# Altium footprint library RobotPcb.PcbLib: 30 footprints (part 1 of 2)
Each footprint in its own frame and in the unit in brackets; x right, y up, seen from the top. Pads: shape width x height; smd on the part's side, far side on the other; paste and mask are expansions set on the pad; w line width, h text height; cw(c..) or ccw(c..) is an arc to the next point about the centre after c.
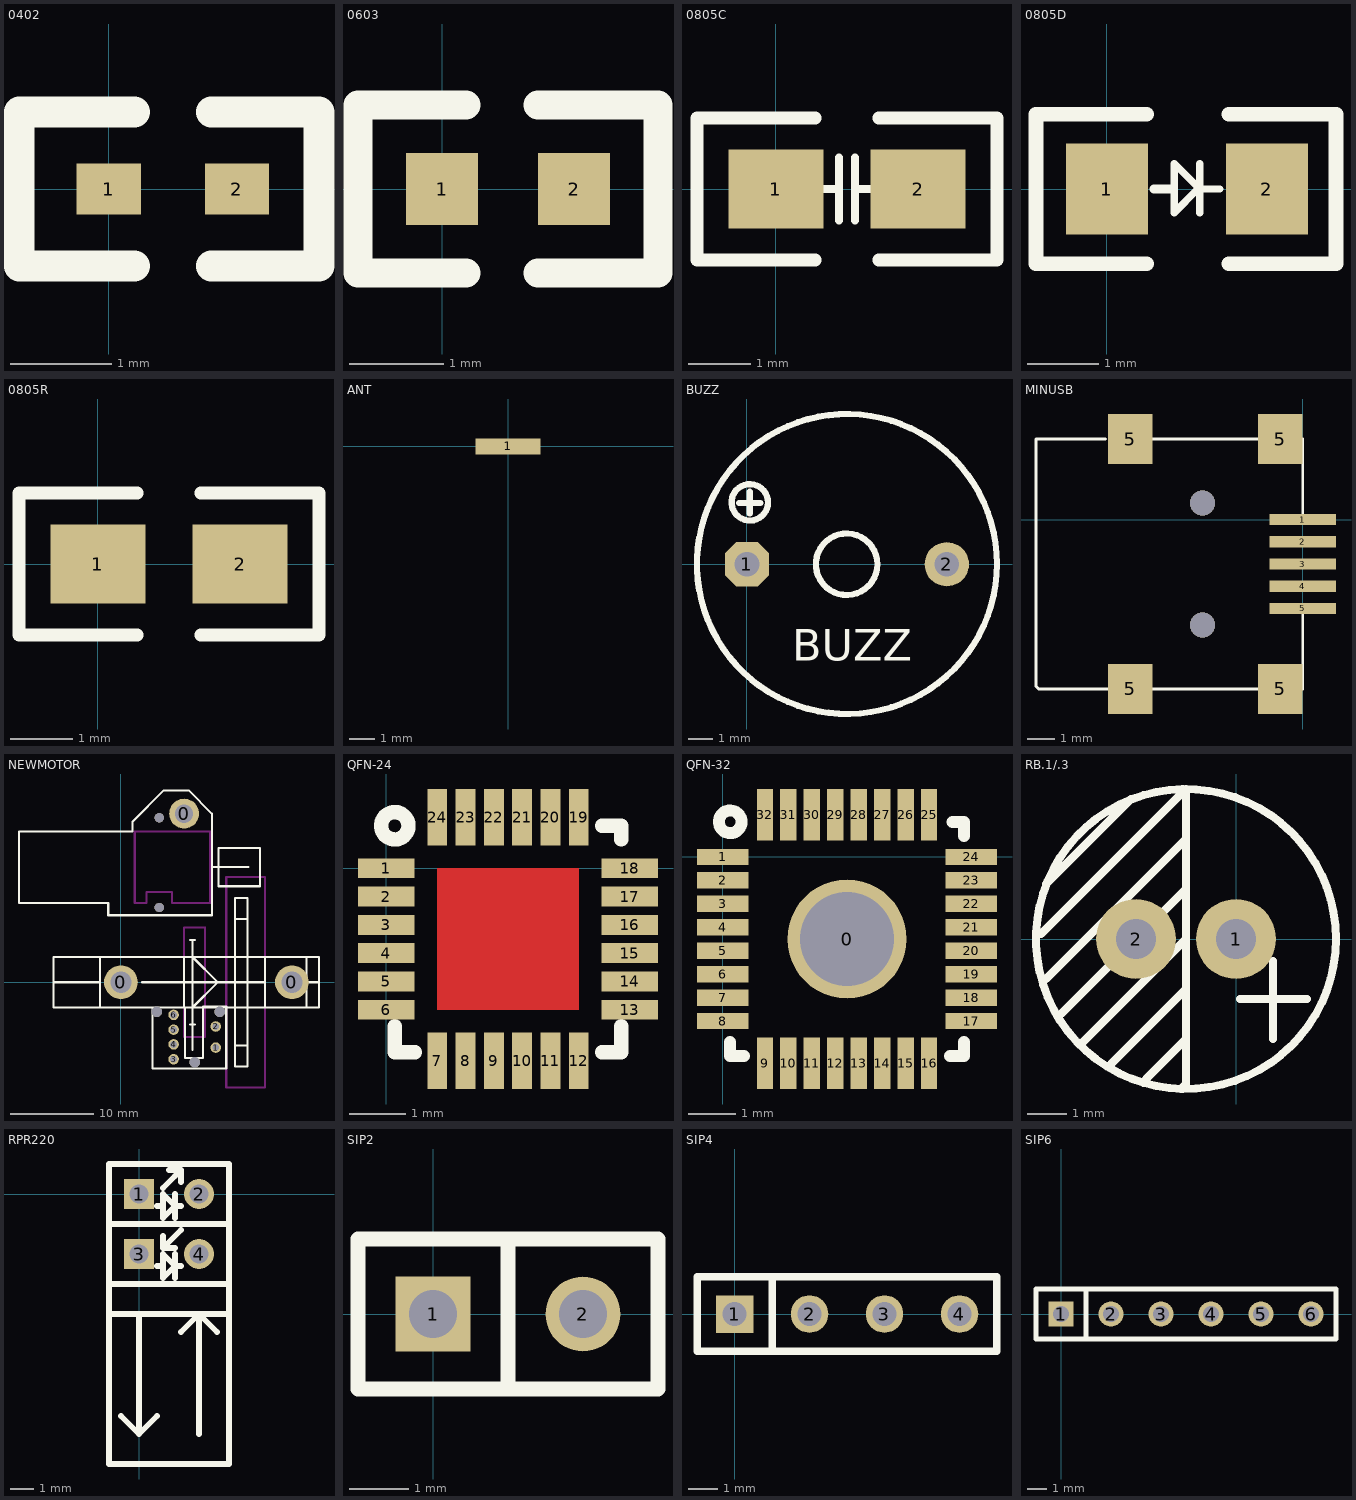
[diagram p0: the footprints below, top view; thin cyan lines are the x and y axes]

## 0402 [mil]
pads (2):
  rect 25x20 smd: 1(0,0) 2(50,0)
Top Overlay:
  lines w12: 10,-30 -35,-30 -35,30 10,30 ; 40,-30 82,-30 82,30 40,30

## 0603 [mil]
pads (2):
  rect 30x30 smd: 1(0,0) 2(55,0)
Top Overlay:
  lines w12: 10,-35 -35,-35 -35,35 10,35 ; 40,-35 90,-35 90,35 40,35

## 0805C [mil]
pads (2):
  rect 60x50 smd: 1(0,0) 2(90,0)
Top Overlay:
  lines w5: 30,0 40,0 ; 40,-20 40,20 ; 50,-20 50,20 ; 50,0 60,0
  lines w8: 25,-45 -50,-45 -50,45 25,45 ; 65,-45 140,-45 140,45 65,45

## 0805D [mil]
pads (2):
  rect 45x50 smd: 1(0,0) 2(88,0)
Top Overlay:
  lines w4: 51,-13 51,14 ; 62,0 51,0 ; 51,0 50,0 37,-13 37,14 51,0
  lines w5: 26,0 36,0
  lines w8: 22,-41 -39,-41 -39,41 22,41 ; 67,-41 126,-41 126,41 67,41

## 0805R [mil]
pads (2):
  rect 60x50 smd: 1(0,0) 2(90,0)
Top Overlay:
  lines w8: 25,-45 -50,-45 -50,45 25,45 ; 65,-45 140,-45 140,45 65,45

## ANT [mil]
pads (1):
  rect 100x24 smd: 1(0,0)
Top Paste:
  lines w24: -38,-412 38,-412 38,-366 -38,-366 -38,-320 38,-320 38,-274 -38,-274 -38,-228 38,-228 38,-182 -38,-182 -38,-136 38,-136 38,-90 -38,-90 -38,-44 38,-44 38,2
Top Solder:
  lines w24: -38,-412 38,-412 38,-366 -38,-366 -38,-320 38,-320 38,-274 -38,-274 -38,-228 38,-228 38,-182 -38,-182 -38,-136 38,-136 38,-90 -38,-90 -38,-44 38,-44 38,2

## BUZZ [mm]
pads (2):
  oct 1.8x1.8 hole 1: 1(0,0)
  round 1.8 hole 1: 2(8.128,0)
Top Overlay:
  circle w0.254: c0.115,2.518 r0.741
  circle w0.254: c4.067,0.011 r6.1
  circle w0.254: c4.053,0 r1.251
  lines w0.254: -0.317,2.492 0.546,2.492 ; 0.115,2.06 0.115,2.949
  text "BUZZ" at 1.838,-3.923 h1.27

## MINUSB [mm]
pads (9):
  rect 2.4x0.4 smd: 1(0,0) 2(0,-0.8) 3(0,-1.6) 4(0,-2.4) 5(0,-3.2)
  rect 1.6x1.8 smd: 5(-6.2,-6.1) 5(-6.2,2.9) 5(-0.8,-6.1) 5(-0.8,2.9)
via -3.6,0.6 diameter 0.9 hole 0.9
via -3.6,-3.8 diameter 0.9 hole 0.9
Top Overlay:
  lines w0.1: -7.1,2.9 -9.6,2.9 -9.6,-6 -9.5,-6.1 -7,-6.1 ; -5.4,-6.1 -1.6,-6.1 ; -5.4,2.9 -1.6,2.9 ; 0,-6.1 0,-3.4 ; 0,0.2 0,2.9

## NEWMOTOR [mil]
pads (9):
  round 160 hole 100: 0(0,0) 0(811.5,0)
  round 141.73 hole 86.61: 0(300,800)
  round 50 hole 32: 1(450,-310) 2(450,-210) 3(250,-365) 4(250,-295) 5(250,-225) 6(250,-155)
via 181.89,355.12 diameter 43.31 hole 43.31
via 181.89,780.32 diameter 43.31 hole 43.31
via 350,-380 diameter 50 hole 50
via 170,-140 diameter 50 hole 50
via 470,-140 diameter 50 hole 50
Top Overlay:
  lines w10: -320,0 -100,0 ; -100,-120 -100,0 ; -100,120 -100,0 ; 55.91,719.29 55.91,762.6 203.54,910.24 321.65,910.24 ; 55.91,729.13 55.91,715.35 -483.46,715.35 -483.46,376.77 -60.24,376.77 -60.24,317.72 431.89,317.72 431.89,376.77 431.89,800 321.65,910.24 ; 100,0 680,0 ; 150,-335 150,-410 ; 299.21,120 299.21,-118.03 301.18,-120 ; 328.74,-200.79 340.55,-200.79 ; 328.74,200.79 340.55,200.79 ; 340,-120 460,0 340,120 340.55,119.45 ; 340.55,-320.87 340.55,0 ; 352.36,-200.79 340.55,-200.79 ; 352.36,200.79 340.55,200.79 ; 431.89,546.06 605.12,546.06 ; 541.34,-301.18 542.52,-300 600.39,-300 ; 541.34,300 600.39,300 ; 880,-120 880,120 ; 880,0 940,0 ; 150,-410 450,-410 500,-410 500,-115 390,-115 390,-360 305,-360 305,-120 150,-120 150,-410 ; 321.65,910.24 321.65,910.24 ; 340.55,-200.79 340.55,-120 340.55,119.45 ; 340.55,119.45 340.55,200.79 ; 680,-120 0,-120 -320,-120 -320,120 0,120 680,120 ; 680,-120 780,-120 940,-120 940,120 780,120 680,120 ; 680,-120 683.07,-116.93 683.07,100.39 683.07,116.93 680,120 ; 463.39,455.51 660.24,455.51 660.24,636.61 463.39,636.61 463.39,455.51 ; 541.34,-399.61 600.39,-399.61 600.39,0 600.39,399.61 541.34,399.61 541.34,-399.61
Keep-Out Layer:
  lines w10: 65.75,483.07 65.75,715.35 424.02,715.35 424.02,376.77 242.91,376.77 242.91,410.24 242.91,427.95 120.87,427.95 120.87,376.77 65.75,376.77 65.75,498.82 ; 300,-259.69 300,260 389.69,260 399.37,260 399.69,259.69 399.69,-259.69 389.69,-259.69 300,-259.69 ; 500,-500 500,500 683.07,500 683.07,-500 500,-500

## QFN-24 [mm]
pads (24):
  rect 1x0.35 smd: 1(0,0) 2(0,-0.5) 3(0,-1) 4(0,-1.5) 5(0,-2) 6(0,-2.5) 13(4.3,-2.5) 14(4.3,-2) 15(4.3,-1.5) 16(4.3,-1) 17(4.3,-0.5) 18(4.3,0)
  rect 0.35x1 smd: 7(0.9,-3.4) 8(1.4,-3.4) 9(1.9,-3.4) 10(2.4,-3.4) 11(2.9,-3.4) 12(3.4,-3.4) 19(3.4,0.9) 20(2.9,0.9) 21(2.4,0.9) 22(1.9,0.9) 23(1.4,0.9) 24(0.9,0.9)
Top Layer:
  rectangle: 0.9,-2.5 3.4,0
Top Overlay:
  circle w0.254: c0.15,0.75 r0.242
  lines w0.254: 0.15,-2.794 0.15,-3.25 0.508,-3.25 ; 3.81,-3.25 4.15,-3.25 4.15,-2.794 ; 3.81,0.75 4.15,0.75 4.15,0.508

## QFN-32 [mm]
pads (33):
  round 2.54 hole 2: 0(2.65,-1.75)
  rect 1.1x0.35 smd: 1(0,0) 2(0,-0.5) 3(0,-1) 4(0,-1.5) 5(0,-2) 6(0,-2.5) 7(0,-3) 8(0,-3.5) 17(5.3,-3.5) 18(5.3,-3) 19(5.3,-2.5) 20(5.3,-2) 21(5.3,-1.5) 22(5.3,-1) 23(5.3,-0.5) 24(5.3,0)
  rect 0.35x1.1 smd: 9(0.9,-4.4) 10(1.4,-4.4) 11(1.9,-4.4) 12(2.4,-4.4) 13(2.9,-4.4) 14(3.4,-4.4) 15(3.9,-4.4) 16(4.4,-4.4) 25(4.4,0.9) 26(3.9,0.9) 27(3.4,0.9) 28(2.9,0.9) 29(2.4,0.9) 30(1.9,0.9) 31(1.4,0.9) 32(0.9,0.9)
Top Overlay:
  circle w0.254: c0.158,0.75 r0.242
  lines w0.254: 0.15,-3.95 0.15,-4.25 0.45,-4.25 ; 4.85,-4.25 5.15,-4.25 5.15,-3.95 ; 4.9,0.75 5.15,0.75 5.15,0.45

## RB.1/.3 [mil]
pads (2):
  round 80 hole 40: 1(0,0) 2(-100,0)
Top Overlay:
  circle w8: c-50,0 r150
  lines w8: -195,5 -50,150 -50,-145 -55,-150 ; -190,-40 -50,100 ; -190,55 -105,140 ; -175,-75 -50,50 ; -155,-105 -50,0 ; -125,-125 -50,-50 ; -90,-140 -50,-100 ; 4,-60 71,-60 ; 37,-100 37,-22

## RPR220 [mil]
pads (4):
  rect 50x50 hole 32: 1(0,0) 3(0,-100)
  round 50 hole 32: 2(100,0) 4(100,-100)
Top Overlay:
  lines w10: -50,-200 150,-200 ; -50,0 -50,-450 150,-450 150,-150 ; -30,-370 0,-400 ; 0,-300 0,-400 ; 0,-200 0,-400 ; 30,-370 0,-400 ; 30,-120 40,-120 ; 30,-20 40,-20 ; 40,-70 40,-90 ; 40,10 60,30 70,40 ; 50,40 70,40 ; 60,-140 60,-100 ; 60,-90 40,-90 ; 60,-40 60,0 ; 70,-230 100,-200 ; 70,-120 60,-120 ; 70,-60 40,-90 ; 70,-20 60,-20 ; 70,20 70,40 ; 100,-400 100,-200 ; 130,-230 100,-200 ; -50,-50 -50,50 150,50 150,-50 ; -50,-50 150,-50 ; -50,-50 -50,-150 150,-150 ; -50,-50 150,-50 ; 60,-120 40,-100 40,-140 60,-120 ; 60,-20 40,0 40,-40 60,-20 ; 150,-150 150,-50

## SIP2 [mil]
pads (2):
  rect 50x50 hole 32: 1(0,0)
  round 50 hole 32: 2(100,0)
Top Overlay:
  lines w10: 50,-50 50,50 ; -50,-50 150,-50 150,50 -50,50 -50,-50

## SIP4 [mil]
pads (4):
  rect 50x50 hole 32: 1(0,0)
  round 50 hole 32: 2(100,0) 3(200,0) 4(300,0)
Top Overlay:
  lines w10: 50,-50 50,50 ; -50,-50 -50,50 350,50 350,-50 -50,-50

## SIP6 [mil]
pads (6):
  rect 50x50 hole 32: 1(0,0)
  round 50 hole 32: 2(100,0) 3(200,0) 4(300,0) 5(400,0) 6(500,0)
Top Overlay:
  lines w10: 50,-50 50,50 ; -50,-50 550,-50 550,50 -50,50 -50,-50